# EAGLE library part LIS302DL (library led_matrix_master_lib)
ACCELEROMETER 3AXIS MEMS 14-LGA
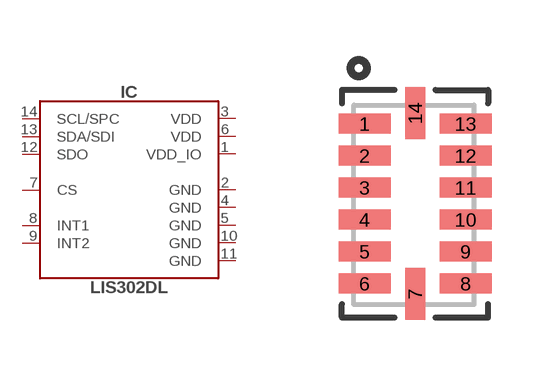
[diagram p5: symbol with the pads of LGA14-0.5; footprint LGA14-0.5]

Designator prefix IC

## LIS302DLHS0.5 (DIGIKEY#: 497-5911-1-ND; MANF: STMicroelectronics; MANF#: LIS302DLTR)  [LGA14-0.5]
1  VDD_IO  pwr
2  GND  pwr
3  VDD  pwr
4  GND  pwr
5  GND  pwr
6  VDD  pwr
7  CS  in
8  INT1  out
9  INT2  out
10  GND  pwr
11  GND  pwr
12  SDO  out
13  SDA/SDI
14  SCL/SPC  in

## Footprint LGA14-0.5 (pad centres in mm)
smd 1.3 x 0.5: 1 -1.262,2; 2 -1.262,1.2; 3 -1.262,0.4; 4 -1.262,-0.4; 5 -1.262,-1.2; 6 -1.262,-2; 8 1.262,-2; 9 1.262,-1.2; 10 1.262,-0.4; 11 1.262,0.4; 12 1.262,1.2; 13 1.262,2
smd 0.5 x 1.3: 7 0,-2.263; 14 0,2.263